# EAGLE library part VG32-FEDERLEISTE (library 1A-meinLib)
VG 32 Federleiste, Harting TB 0903232
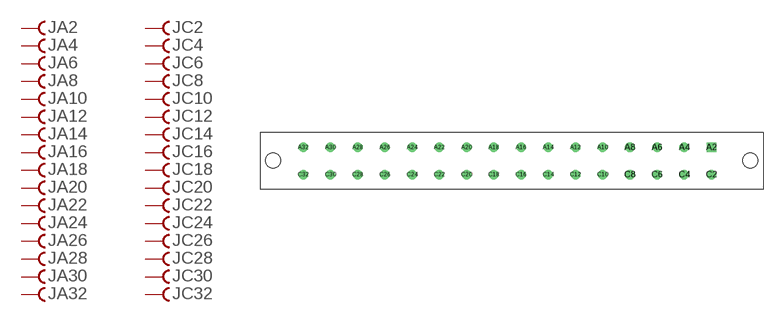
[diagram p295: symbol with the pads of VG32-FEDERLEISTE; footprint VG32-FEDERLEISTE]

Designator prefix J; gates A2=F A4=F A6=F A8=F A10=F A12=F A14=F A16=F A18=F A20=F A22=F A24=F A26=F A28=F A30=F A32=F C2=F C4=F C6=F C8=F C10=F C12=F C14=F C16=F C18=F C20=F C22=F C24=F C26=F C28=F C30=F C32=F

## VG32-FEDERLEISTE  [VG32-FEDERLEISTE]
A2  A2:F  pas
A4  A4:F  pas
A6  A6:F  pas
A8  A8:F  pas
A10  A10:F  pas
A12  A12:F  pas
A14  A14:F  pas
A16  A16:F  pas
A18  A18:F  pas
A20  A20:F  pas
A22  A22:F  pas
A24  A24:F  pas
A26  A26:F  pas
A28  A28:F  pas
A30  A30:F  pas
A32  A32:F  pas
C2  C2:F  pas
C4  C4:F  pas
C6  C6:F  pas
C8  C8:F  pas
C10  C10:F  pas
C12  C12:F  pas
C14  C14:F  pas
C16  C16:F  pas
C18  C18:F  pas
C20  C20:F  pas
C22  C22:F  pas
C24  C24:F  pas
C26  C26:F  pas
C28  C28:F  pas
C30  C30:F  pas
C32  C32:F  pas

## Footprint VG32-FEDERLEISTE (pad centres in mm)
VG 32 Federleiste, Harting TB 0903232
drill 1 pad 1.778 square: A2 0,0
drill 1 pad 1.778 round: A4 -5.08,0; A6 -10.16,0; A8 -15.24,0; A10 -20.32,0; A12 -25.4,0; A14 -30.48,0; A16 -35.56,0; A18 -40.64,0; A20 -45.72,0; A22 -50.8,0; A24 -55.88,0; A26 -60.96,0; A28 -66.04,0; A30 -71.12,0; A32 -76.2,0; C2 0,-5.08; C4 -5.08,-5.08; C6 -10.16,-5.08; C8 -15.24,-5.08; C10 -20.32,-5.08; C12 -25.4,-5.08; C14 -30.48,-5.08; C16 -35.56,-5.08; C18 -40.64,-5.08; C20 -45.72,-5.08; C22 -50.8,-5.08; C24 -55.88,-5.08; C26 -60.96,-5.08; C28 -66.04,-5.08; C30 -71.12,-5.08; C32 -76.2,-5.08
hole 2.8 at -81.8,-2.5
hole 2.8 at 7.2,-2.5